# Altium schematic symbol library AO3401A.SchLib: 1 symbol
Pins are listed as number, name and electrical type; pins without a type are passive.

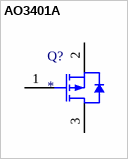
[diagram p0: symbol AO3401A]

## AO3401A
designator Q?
P-Channel MOSFET, 30 V, 4 A, -55 to 150 degC, 3-Pin SOT-23-3L, RoHS, Tape and Reel
footprint AO-SOT-23-3L_V (SOT23, 3-Leads, Body 3.1x1.8mm, Pitch 0.95mm)
pins: 1 GATE, 2 SOURCE, 3 DRAIN